# Altium schematic symbol library AAT3681.SchLib: 1 symbol
Pins are listed as number, name and electrical type; pins without a type are passive.

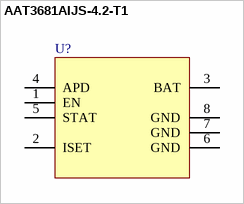
[diagram p0: symbol AAT3681AIJS-4.2-T1]

## AAT3681AIJS-4.2-T1
designator U?
ID: AAT3681AIJS-4.2-T1; PDF: http://www.skyworksinc.com/uploads/documents/AAT3681A_201883C.pdf; PRICE: 0.48000; BUY_LINK: http://www.digikey.com/product-detail/en/AAT3681AIJS-4.2-T1/863-1510-1-ND/4246127
footprint SC70-8
pins: 1 EN (power), 2 ISET (power), 3 BAT (power), 4 APD (power), 5 STAT (power), 6 GND (power), 7 GND (power), 8 GND (power)